# Altium footprint library Sparkfun H3LISDL.PcbLib: 1 footprints
Each footprint in its own frame and in the unit in brackets; x right, y up, seen from the top. Pads: shape width x height; smd on the part's side, far side on the other; paste and mask are expansions set on the pad; w line width, h text height; cw(c..) or ccw(c..) is an arc to the next point about the centre after c.
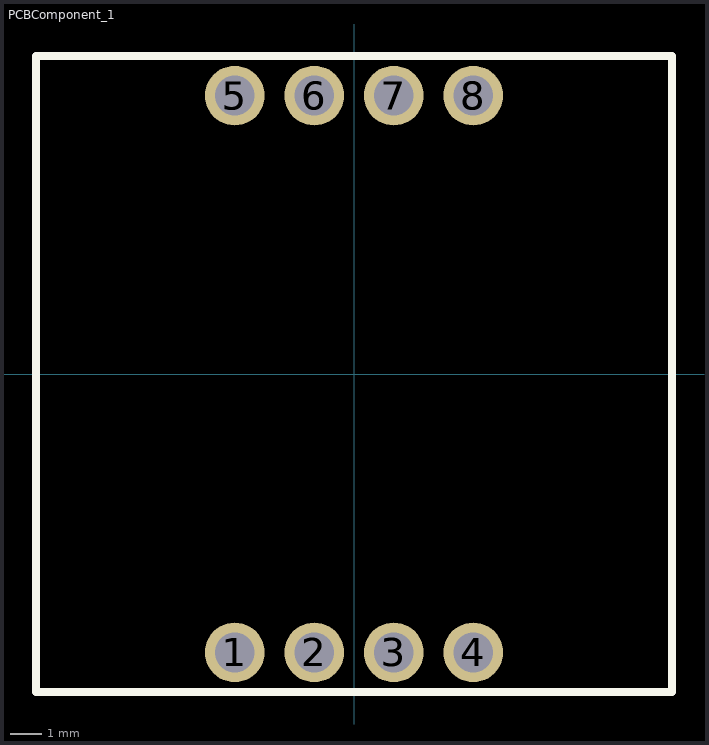
[diagram p0: the footprint, top view; thin cyan lines are the x and y axes]

## PCBComponent_1 [mil]
pads (16):
  round 75 hole 50: 1(-150,-350) 2(-50,-350) 3(50,-350) 4(150,-350) 5(-150,350) 6(-50,350) 7(50,350) 8(150,350)
  round 74 hole 50: 1(-150,-350) 2(-50,-350) 3(50,-350) 4(150,-350) 5(-150,350) 6(-50,350) 7(50,350) 8(150,350)
Top Overlay:
  lines w10: -400,-400 400,-400 400,400 -400,400 -400,-400
Mechanical 3:
  region: -160,-360 -160,-340 -140,-340 -140,-360
  region: -60,-360 -60,-340 -40,-340 -40,-360
  region: 40,-360 40,-340 60,-340 60,-360
  region: 140,-360 140,-340 160,-340 160,-360
  region: -160,340 -160,360 -140,360 -140,340
  region: -60,340 -60,360 -40,360 -40,340
  region: 40,340 40,360 60,360 60,340
  region: 140,340 140,360 160,360 160,340